# EAGLE library part STM32L052K8T6 (library STM32L052K8T6)
ARM Microcontrollers - MCU Ultra-low power ARM Cortex-M0+ MCU with 64-Kbyte Flash, 32 MHz CPU, USB Source: Datasheet <https://mouser.componentsearchengine.com/Datasheets/1/STM32L052K8T6.pdf>
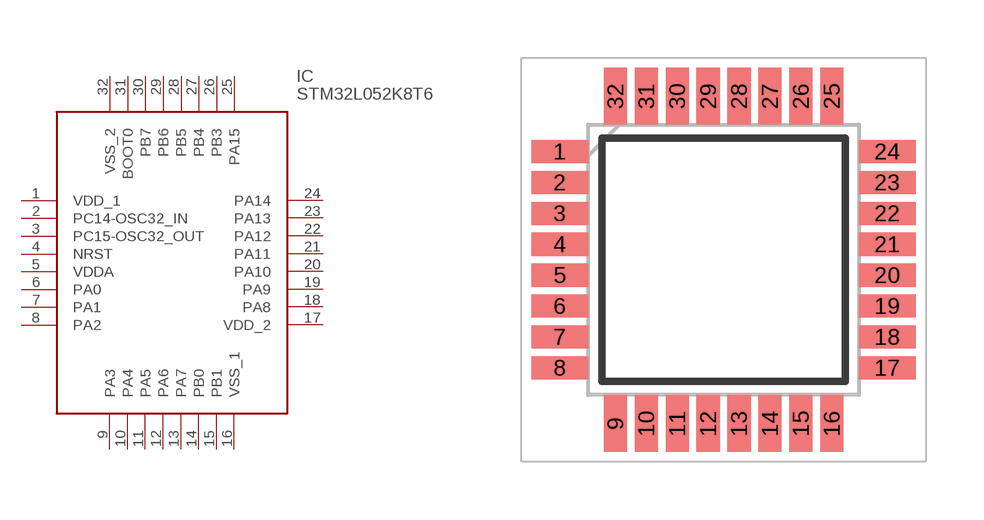
[diagram p0: symbol with the pads of QFP80P900X900X160-32N; footprint QFP80P900X900X160-32N]

Designator prefix IC

## STM32L052K8T6 (Arrow_Part_Number: STM32L052K8T6; Arrow_Price-Stock: https://www.arrow.com/en/products/stm32l052k8t6/stmicroelectronics?region=nac; Description: ARM Microcontrollers - MCU Ultra-low power ARM Cortex-M0+ MCU with 64-Kbyte Flash, 32 MHz CPU, USB; Height: 1.6mm; Manufacturer_Name: STMicroelectronics; Manufacturer_Part_Number: STM32L052K8T6; Mouser_Part_Number: 511-STM32L052K8T6; Mouser_Price-Stock: https://www.mouser.co.uk/ProductDetail/STMicroelectronics/STM32L052K8T6?qs=DqCdCwOw4%2F7bLOyPbGT9mw%3D%3D)  [QFP80P900X900X160-32N]
1  VDD_1  pwr
2  PC14-OSC32_IN
3  PC15-OSC32_OUT
4  NRST
5  VDDA  pwr
6  PA0
7  PA1
8  PA2
9  PA3
10  PA4
11  PA5
12  PA6
13  PA7
14  PB0
15  PB1
16  VSS_1  pwr
17  VDD_2  pwr
18  PA8
19  PA9
20  PA10
21  PA11
22  PA12
23  PA13
24  PA14
25  PA15
26  PB3
27  PB4
28  PB5
29  PB6
30  PB7
31  BOOT0  in
32  VSS_2  pwr

## Footprint QFP80P900X900X160-32N (pad centres in mm)
ST LQFP32
smd 1.475 x 0.6: 1 -4.238,2.8; 2 -4.238,2; 3 -4.238,1.2; 4 -4.238,0.4; 5 -4.238,-0.4; 6 -4.238,-1.2; 7 -4.238,-2; 8 -4.238,-2.8; 17 4.238,-2.8; 18 4.238,-2; 19 4.238,-1.2; 20 4.238,-0.4; 21 4.238,0.4; 22 4.238,1.2; 23 4.238,2; 24 4.238,2.8
smd 0.6 x 1.475: 9 -2.8,-4.238; 10 -2,-4.238; 11 -1.2,-4.238; 12 -0.4,-4.238; 13 0.4,-4.238; 14 1.2,-4.238; 15 2,-4.238; 16 2.8,-4.238; 25 2.8,4.238; 26 2,4.238; 27 1.2,4.238; 28 0.4,4.238; 29 -0.4,4.238; 30 -1.2,4.238; 31 -2,4.238; 32 -2.8,4.238